# Altium schematic symbol library RES-SMD.SchLib: 1 symbol
Pins are listed as number, name and electrical type; pins without a type are passive.

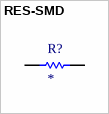
[diagram p0: symbol RES-SMD]

## RES-SMD
designator R?
SMD Resistors Packages
footprint R0201-L
footprint R0402-L
footprint R0603-L
footprint R0805-L
footprint R1206-L
footprint R2512-L
pins: 1, 2